# Altium footprint library Molex.PcbLib: 30 footprints (part 2 of 2)
Each footprint in its own frame and in the unit in brackets; x right, y up, seen from the top. Pads: shape width x height; smd on the part's side, far side on the other; paste and mask are expansions set on the pad; w line width, h text height; cw(c..) or ccw(c..) is an arc to the next point about the centre after c.
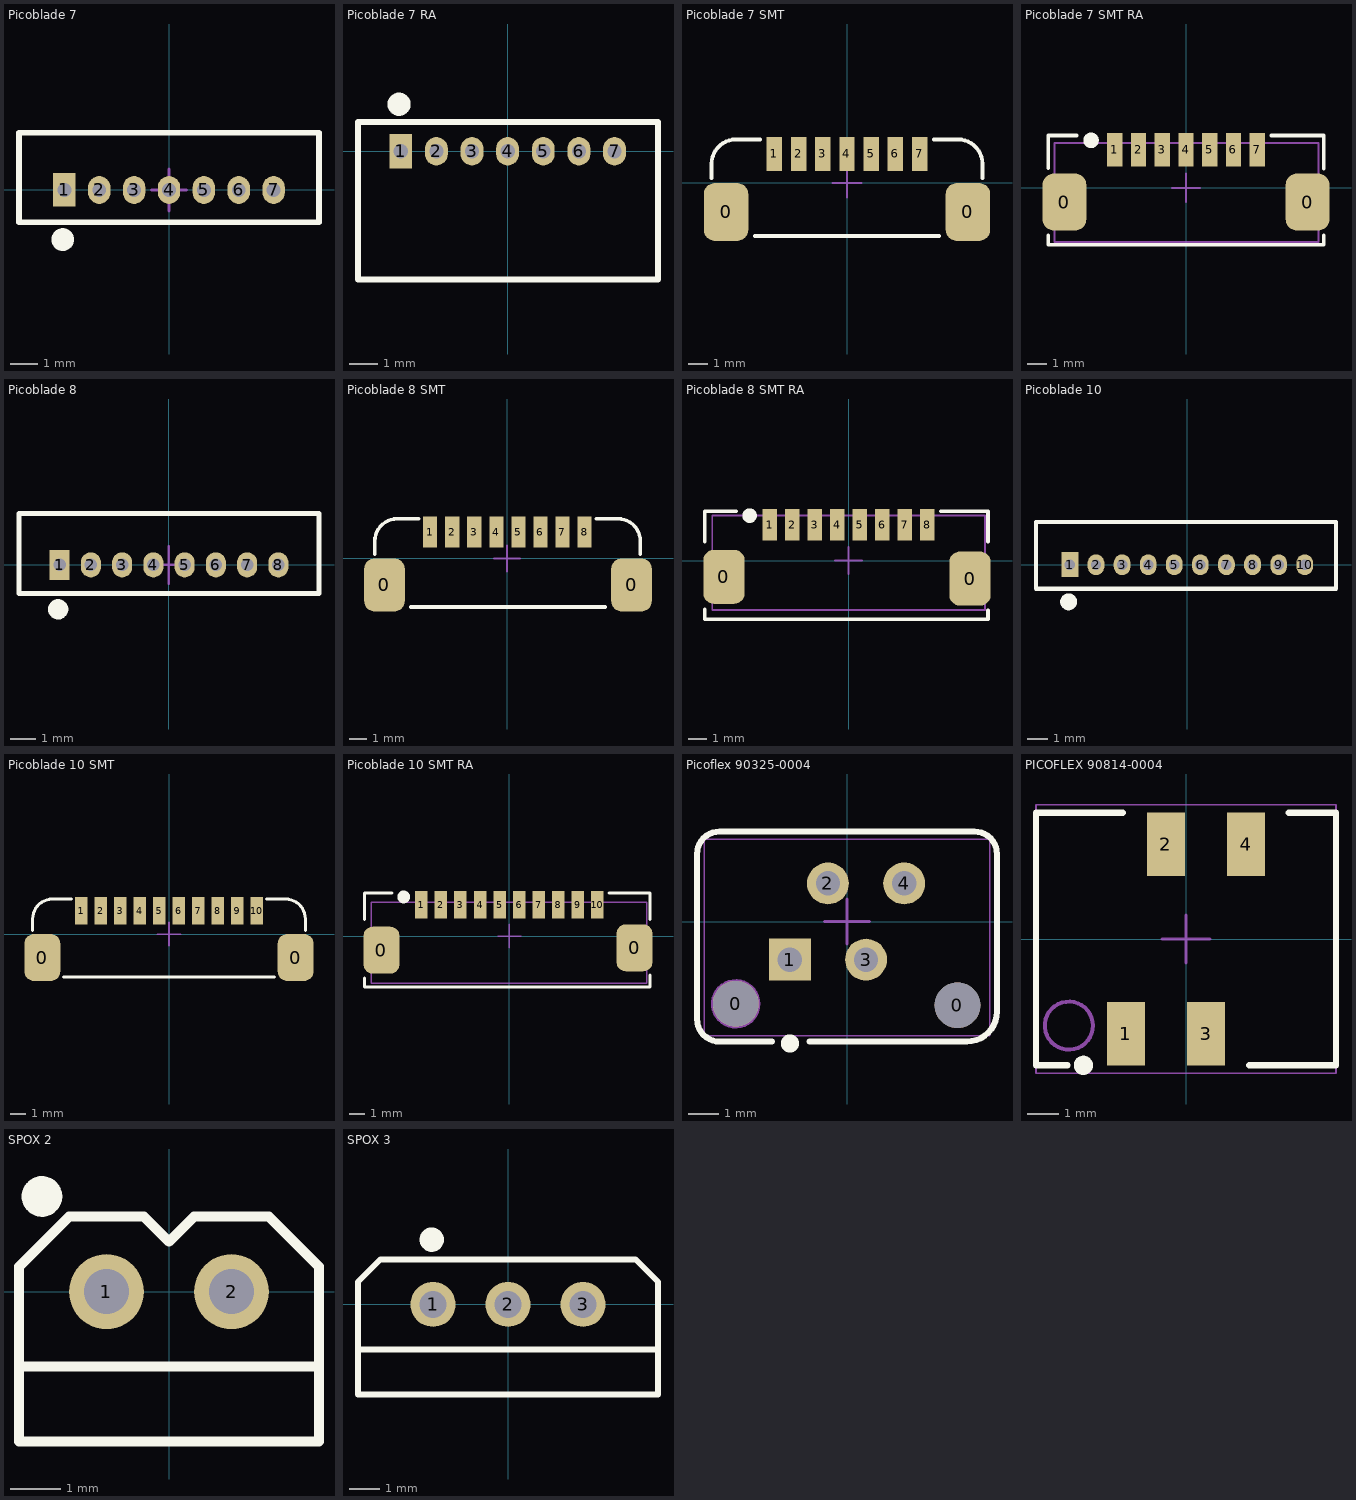
[diagram p1: the footprints below, top view; thin cyan lines are the x and y axes]

## Picoblade 7 [mm]
pads (7):
  rect 0.8x1.2 hole 0.5: 1(-3.75,0)
  oval 0.8x1 hole 0.5: 2(-2.5,0) 3(-1.25,0) 4(0,0) 5(1.25,0) 6(2.5,0) 7(3.75,0)
Top Overlay:
  circle w0.406: c-3.81,-1.778 r0.203
  lines w0.2: -5.375,-1.15 -5.375,2.05 5.375,2.05 5.375,-1.15 -5.375,-1.15
Mechanical 15:
  lines w0.1: -0.625,0 0.625,0 ; 0,-0.75 0,0.75
3D body "530470710.stp": height 4.3, standoff -2.2, extent -5.25,-1.15 5.25,2.05

## Picoblade 7 RA [mm]
pads (7):
  rect 0.8x1.2 hole 0.5: 1(-3.75,0)
  oval 0.8x1 hole 0.5: 2(-2.5,0) 3(-1.25,0) 4(0,0) 5(1.25,0) 6(2.5,0) 7(3.75,0)
Top Overlay:
  circle w0.406: c-3.81,1.651 r0.203
  lines w0.2: -5.25,-4.5 -5.25,1.025 5.275,1.025 5.275,-4.5 -5.25,-4.5
3D body "530480710.stp": height 3.55, standoff -2.25, extent -5.225,-4.475 5.275,1.025

## Picoblade 7 SMT [mm]
pads (9):
  rrect50% 2.3x3 smd: 0(-6.25,-1.5) 0(6.25,-1.5)
  rect 0.8x1.75 smd: 1(-3.75,1.5) 2(-2.5,1.5) 3(-1.25,1.5) 4(0,1.5) 5(1.25,1.5) 6(2.5,1.5) 7(3.75,1.5)
Top Overlay:
  lines w0.2: -7,0.25 -7,0.98 cw(c-5.73,0.98) -5.73,2.25 -4.5,2.25 ; -4.75,-2.75 4.75,-2.75 ; 4.5,2.25 5.73,2.25 cw(c5.73,0.98) 7,0.98 7,0.25
Mechanical 15:
  lines w0.1: -0.75,0 0.75,0 ; 0,-0.75 0,0.75
3D body "533980771.stp": height 4.7, standoff 0, extent -6.95,-2.6 6.95,1.6

## Picoblade 7 SMT RA [mm]
pads (9):
  rrect50% 2.3x3 smd: 0(-6.4,-0.75) 0(6.4,-0.75)
  rect 0.8x1.75 smd: 1(-3.75,2) 2(-2.5,2) 3(-1.25,2) 4(0,2) 5(1.25,2) 6(2.5,2) 7(3.75,2)
Top Overlay:
  circle w0.406: c-5,2.5 r0.203
  lines w0.2: -7.25,-2.5 -7.25,-3 7.25,-3 7.25,-2.5 ; -7.25,1.05 -7.25,2.75 -5.75,2.75 ; 4.5,2.75 7.25,2.75 7.25,1
Mechanical 13:
  lines w0.1: -6.925,-2.85 -6.925,2.35 6.975,2.35 6.975,-2.85 -6.925,-2.85
Mechanical 15:
  lines w0.1: -0.75,0 0.75,0 ; 0,-0.75 0,0.75
3D body "532610771.stp": height 3.4, standoff 0, extent -6.95,-2.85 6.95,2.35

## Picoblade 8 [mm]
pads (8):
  rect 0.8x1.2 hole 0.5: 1(-4.375,0)
  oval 0.8x1 hole 0.5: 2(-3.125,0) 3(-1.875,0) 4(-0.625,0) 5(0.625,0) 6(1.875,0) 7(3.125,0) 8(4.375,0)
Top Overlay:
  circle w0.406: c-4.435,-1.778 r0.203
  lines w0.2: -6,-1.15 6,-1.15 6,2.05 -6,2.05 -6,-1.15
Mechanical 15:
  lines w0.1: -0.625,0 0.625,0 ; 0,-0.75 0,0.75
3D body: height 25.6, standoff -1.59, extent -3,3.5 -3,3.5
3D body: height 25.6, standoff -1.59, extent -2.25,2.5 -2.25,2.5
3D body "530470810.stp": height 4.23, standoff -2.27, extent -5.883,-1.118 5.867,2.082

## Picoblade 8 SMT [mm]
pads (10):
  rrect50% 2.3x3 smd: 0(-6.95,-1.5) 0(7.05,-1.5)
  rect 0.8x1.75 smd: 1(-4.362,1.5) 2(-3.112,1.5) 3(-1.862,1.5) 4(-0.612,1.5) 5(0.638,1.5) 6(1.887,1.5) 7(3.137,1.5) 8(4.387,1.5)
Top Overlay:
  lines w0.2: -7.5,0.25 -7.5,0.98 cw(c-6.23,0.98) -6.23,2.25 -5,2.25 ; -5.45,-2.75 5.55,-2.75 ; 5.05,2.25 6.28,2.25 cw(c6.28,0.98) 7.55,0.98 7.55,0.25
Mechanical 15:
  lines w0.1: -0.75,0 0.75,0 ; 0,-0.75 0,0.75
3D body "533980871.stp": height 4.72, standoff -0.02, extent -7.525,-2.6 7.625,1.6

## Picoblade 8 SMT RA [mm]
pads (10):
  rrect50% 2.3x3 smd: 0(-6.925,-0.9) 0(6.75,-1)
  rect 0.8x1.75 smd: 1(-4.375,2) 2(-3.125,2) 3(-1.875,2) 4(-0.625,2) 5(0.625,2) 6(1.875,2) 7(3.125,2) 8(4.375,2)
Top Overlay:
  circle w0.406: c-5.5,2.5 r0.203
  lines w0.2: -8,-2.7 -8,-3.25 7.75,-3.25 7.75,-2.75 ; -8,1.05 -8,2.75 -6.25,2.75 ; 5.125,2.75 7.75,2.75 7.75,1.05
Mechanical 13:
  lines w0.1: -7.575,-2.75 -7.575,2.5 7.575,2.5 7.575,-2.75 -7.575,-2.75
Mechanical 15:
  lines w0.1: -0.75,0 0.75,0 ; 0,-0.75 0,0.75
3D body "532610871.stp": height 3.4, standoff 0, extent -7.575,-2.725 7.575,2.475

## Picoblade 10 [mm]
pads (10):
  rect 0.8x1.2 hole 0.5: 1(-5.625,0)
  oval 0.8x1 hole 0.5: 2(-4.375,0) 3(-3.125,0) 4(-1.875,0) 5(-0.625,0) 6(0.625,0) 7(1.875,0) 8(3.125,0) 9(4.375,0) 10(5.625,0)
Top Overlay:
  circle w0.406: c-5.685,-1.778 r0.203
  lines w0.2: -7.25,-1.15 7.125,-1.15 7.125,2.05 -7.25,2.05 -7.25,-1.15
3D body "530471010.stp": height 4.18, standoff -2.32, extent -7.125,-1.1 7.125,2.1
3D body: height 25.6, standoff -1.59, extent -4.25,3.5 -4.25,3.5

## Picoblade 10 SMT [mm]
pads (12):
  rrect50% 2.3x3 smd: 0(-8.125,-1.5) 0(8.125,-1.5)
  rect 0.8x1.75 smd: 1(-5.625,1.5) 2(-4.375,1.5) 3(-3.125,1.5) 4(-1.875,1.5) 5(-0.625,1.5) 6(0.625,1.5) 7(1.875,1.5) 8(3.125,1.5) 9(4.375,1.5) 10(5.625,1.5)
Top Overlay:
  lines w0.2: -8.75,0.25 -8.75,0.98 cw(c-7.48,0.98) -7.48,2.25 -6.25,2.25 ; -6.75,-2.75 6.75,-2.75 ; 6.25,2.25 7.48,2.25 cw(c7.48,0.98) 8.75,0.98 8.75,0.25
Mechanical 15:
  lines w0.1: -0.75,0 0.75,0 ; 0,-0.75 0,0.75
3D body "533981071.stp": height 4.72, standoff -0.02, extent -8.825,-2.6 8.825,1.6

## Picoblade 10 SMT RA [mm]
pads (12):
  rrect50% 2.3x3 smd: 0(-8.175,-0.9) 0(8,-0.75)
  rect 0.8x1.75 smd: 1(-5.625,2) 2(-4.375,2) 3(-3.125,2) 4(-1.875,2) 5(-0.625,2) 6(0.625,2) 7(1.875,2) 8(3.125,2) 9(4.375,2) 10(5.625,2)
Top Overlay:
  circle w0.406: c-6.75,2.5 r0.203
  lines w0.2: -9.25,-2.7 -9.25,-3.25 9,-3.25 9,-2.5 ; -9.25,1.05 -9.25,2.75 -7.5,2.75 ; 6.375,2.75 9,2.75 9,1.05
Mechanical 13:
  lines w0.1: -8.825,-3.025 8.775,-3.025 8.775,2.175 -8.825,2.175 -8.825,-3.025
Mechanical 15:
  lines w0.1: -0.75,0 0.75,0 ; 0,-0.75 0,0.75
3D body "532611071.stp": height 3.4, standoff 0, extent -8.825,-2.975 8.825,2.225

## Picoflex 90325-0004 [mil] "Connector, Male, THT, Pitch 2.54"
pads (6):
  round 60 hole 60: 0(-146,-108) 0(145,-110)
  rect 55x55 hole 32: 1(-75,-50)
  round 55 hole 32: 2(-25,50) 3(25,-50) 4(75,50)
Top Overlay:
  circle w16: c-75,-160 r3.94
  lines w7.87: -98.43,-157.48 -167.32,-157.48 cw(c-167.32,-127.95) -196.85,-127.95 -196.85,88.58 cw(c-167.32,88.58) -167.32,118.11 167.32,118.11 cw(c167.32,88.58) 196.85,88.58 196.85,-118.11 cw(c157.48,-118.11) 157.48,-157.48 -49.21,-157.48
Mechanical 15:
  lines w1.97: -187.01,-150 -187.01,108.27 187.01,108.27 187.01,-150 -187.01,-150
  lines w3.94: -29.53,0 29.53,0 ; 0,-29.53 0,29.53
Mechanical 16:
  circle w5: c-146,-108 r30
3D body "903250004.stp": height 251.97, standoff -129.92, extent -183.46,-136.82 183.47,105.52

## PICOFLEX 90814-0004 [mm] "Connector, Male, SMT, Pitch 2.54"
pads (4):
  rect 1.2x2 smd: 1(-1.905,-3) 2(-0.635,3) 3(0.635,-3) 4(1.905,3)
Top Overlay:
  circle w0.406: c-3.25,-4 r0.1
  lines w0.2: -3.75,-4 -4.75,-4 -4.75,4 -2,4 ; 2,-4 4.75,-4 4.75,4 3.25,4
Mechanical 15:
  lines w0.05: -4.75,-4.25 4.75,-4.25 4.75,4.25 -4.75,4.25 -4.75,-4.25
  lines w0.1: -0.75,0 0.75,0 ; 0,-0.75 0,0.75
Mechanical 16:
  circle w0.127: c-3.708,-2.743 r0.762
3D body "908140304.stp": height 7.5, standoff 0.05, extent -4.43,-3.45 4.43,3.45

## SPOX 2 [mm] "Wire to Board Connector, 2 Pins, Pitch 2.5mm"
height 5.9
pads (2):
  round 1.5 hole 0.9: 1(-1.25,0) 2(1.25,0)
Top Overlay:
  circle w0.406: c-2.54,1.905 r0.203
  lines w0.2: -3,-1.5 3,-1.5 ; -3,-3 -3,0.5 -2,1.5 -0.5,1.5 0,1 0.5,1.5 2,1.5 3,0.5 3,-3 -3,-3
3D body "022035025.stp": height 5.95, standoff -3.45, extent -3.7,-3.095 3.7,1.805

## SPOX 3 [mm] "Wire to Board Connector, 3 Pins, Pitch 2.5mm"
height 5.9
pads (3):
  round 1.5 hole 0.9: 1(-2.5,0) 2(0,0) 3(2.5,0)
Top Overlay:
  circle w0.406: c-2.54,2.159 r0.203
  lines w0.2: -5,-1.5 5,-1.5 ; -5,-3 5,-3 5,0.75 4.25,1.5 -4.25,1.5 -5,0.75 -5,-3
3D body "022035035.stp": height 5.95, standoff -3.45, extent -4.95,-3.1 4.95,1.8